# EAGLE library part ISO7221*DR (library LoganSmith-DiscreteSemi)
Digitial 2.5kV isolator, opposite direction inputs Datasheet <http://www.ti.com/lit/ds/symlink/iso7220a.pdf>
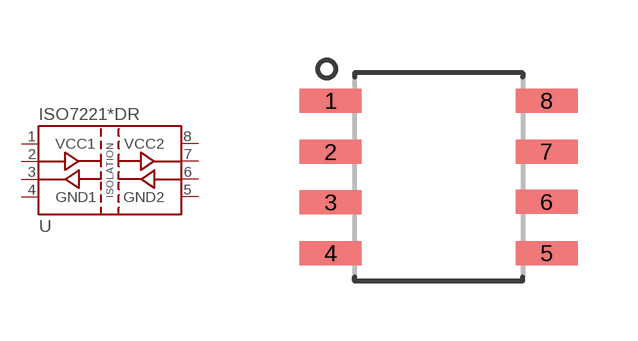
[diagram p0: symbol with the pads of 8-SOIC; footprint 8-SOIC]

Designator prefix U

## ISO7221ADR (DESC: Digital isolator 2.5kV general purpose opposite direction 1Mbps; DIGIKEY_OC: 296-21955-1-ND; HEIGHT: 1.75mm; MFR: Texas Instruments; MPN: ISO7221ADR; TEMP: -40C to 125C; VALUE: ISO7221A), ISO7221BDR, ISO7221CDR, ISO7221DDR  [8-SOIC]
1  VCC1  pwr
2  OUTA  in
3  INB  out
4  GND1  pwr
5  GND2  pwr
6  OUTB  in
7  INA  out
8  VCC2  pwr

## Footprint 8-SOIC (pad centres in mm)
8-SOIC Footprint <http://www.ti.com/lit/ds/symlink/iso7220a.pdf>
smd 1.55 x 0.6: 1 -2.7,1.905; 2 -2.7,0.625; 3 -2.7,-0.635; 4 -2.7,-1.905; 5 2.7,-1.905; 6 2.7,-0.625; 7 2.7,0.635; 8 2.7,1.905